# EAGLE library part AG1170 (library Pink & Black)
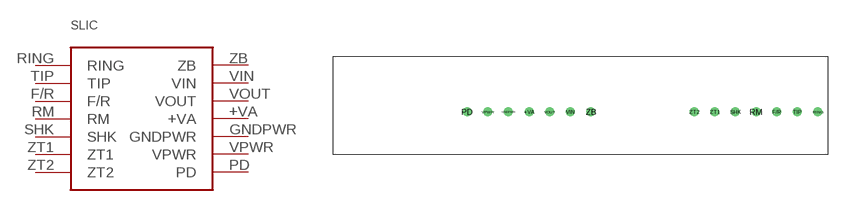
[diagram p0: symbol with the pads of AG1170; footprint AG1170]

Designator prefix SLIC

## AG1170  [AG1170]
+VA  +VA  pwr
F/R  F/R  in
GNDPWR  GNDPWR  pwr
PD  PD  in
RING  RING
RM  RM  in
SHK  SHK  out
TIP  TIP
VIN  VIN
VOUT  VOUT
VPWR  VPWR  pwr
ZB  ZB  nc
ZT1  ZT1  nc
ZT2  ZT2  nc

## Footprint AG1170 (pad centres in mm)
drill 0.6: +VA -5.83,-0.8; F/R 24.65,-0.8; GNDPWR -8.37,-0.8; PD -13.45,-0.8; RING 29.73,-0.8; RM 22.11,-0.8; SHK 19.57,-0.8; TIP 27.19,-0.8; VIN -0.75,-0.8; VOUT -3.29,-0.8; VPWR -10.91,-0.8; ZB 1.79,-0.8; ZT1 17.03,-0.8; ZT2 14.49,-0.8